# EAGLE library part CON-GS405 (library john)
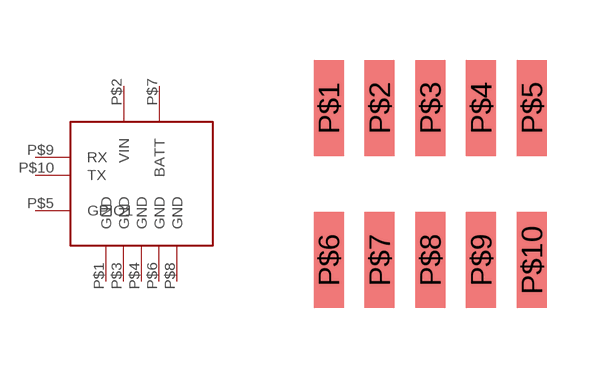
[diagram p1: symbol with the pads of CON-GS405; footprint CON-GS405]

Designator prefix -

## CON-GS405  [CON-GS405]
P$1  GND
P$2  VIN
P$3  GND
P$4  GND
P$5  GPIO1
P$6  GND
P$7  BATT
P$8  GND
P$9  RX
P$10  TX

## Footprint CON-GS405 (pad centres in mm)
smd 0.75 x 2.4: P$1 0,0; P$2 1.27,0; P$3 2.54,0; P$4 3.81,0; P$5 5.08,0; P$6 0,-3.81; P$7 1.27,-3.81; P$8 2.54,-3.81; P$9 3.81,-3.81; P$10 5.08,-3.81